# Altium footprint library USB to SATA.PcbLib: 19 footprints (part 1 of 2)
Each footprint in its own frame and in the unit in brackets; x right, y up, seen from the top. Pads: shape width x height; smd on the part's side, far side on the other; paste and mask are expansions set on the pad; w line width, h text height; cw(c..) or ccw(c..) is an arc to the next point about the centre after c.
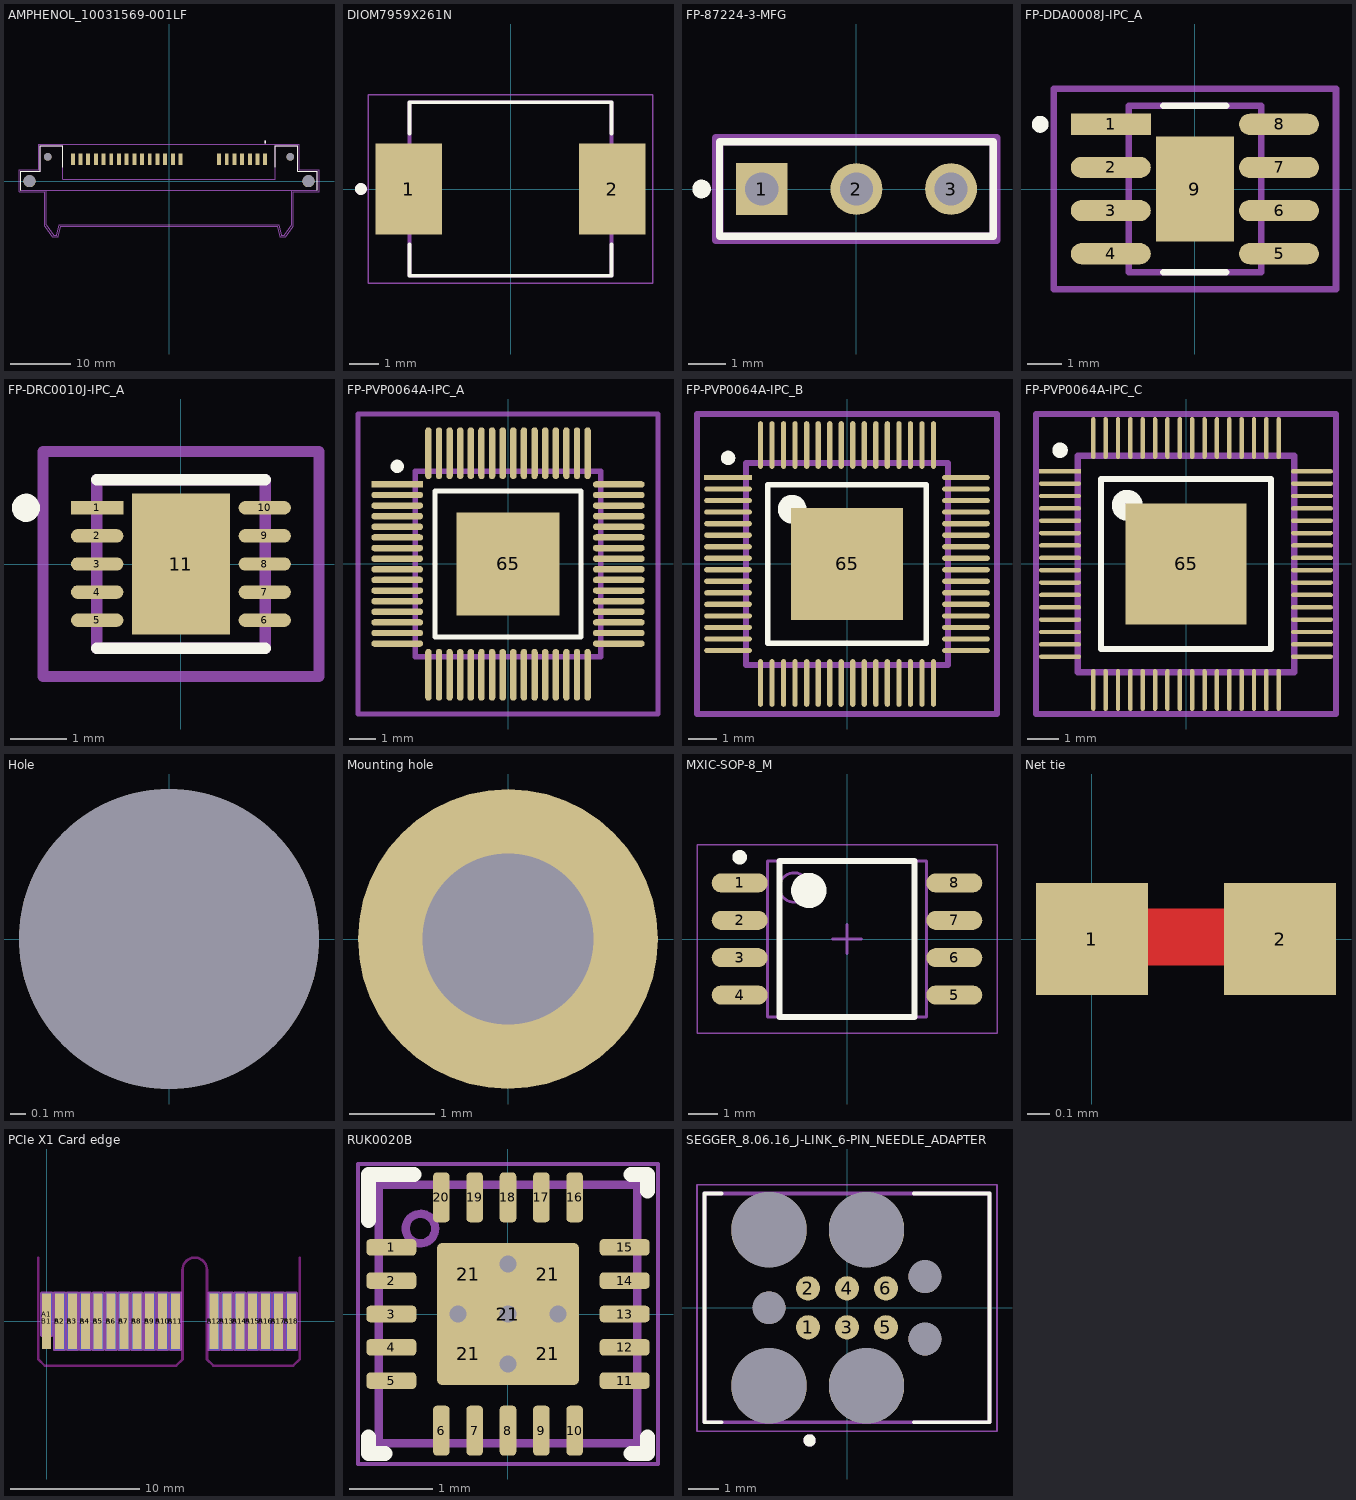
[diagram p0: the footprints below, top view; thin cyan lines are the x and y axes]

## AMPHENOL_10031569-001LF [mm]
pads (26):
  rect 0.65x1.9 smd: P1(1.905,3.6) P2(0.635,3.6) P3(-0.635,3.6) P4(-1.905,3.6) P5(-3.175,3.6) P6(-4.445,3.6) P7(-5.715,3.6) P8(-6.985,3.6) P9(-8.255,3.6) P10(-9.525,3.6) P11(-10.795,3.6) P12(-12.065,3.6) P13(-13.335,3.6) P14(-14.605,3.6) P15(-15.875,3.6) S1(15.875,3.6) S2(14.605,3.6) S3(13.335,3.6) S4(12.065,3.6) S5(10.795,3.6) S6(9.525,3.6) S7(8.255,3.6)
  round 2 hole 2 unplated: ""(-23,0) ""(23,0)
  round 1.25 hole 1.25 unplated: ""(-20,4) ""(20,4)
Top Overlay:
  circle w0.2: c15.875,6.458 r0.1
  lines w0.127: -24.5,-1.5 -24.5,1.65 -21.25,1.65 -21.25,5.8 -17.5,5.8 -17.5,2.33 ; 17.5,2.33 17.5,5.8 21.25,5.8 21.25,1.65 24.5,1.65 24.5,-1.5
Top 3D Body:
  circle w0.2: c15.875,6.458 r0.1
  lines w0.127: -20.215,-1.5 -20.215,-7.2 -19.025,-8.9 -18.525,-8.9 -18.095,-7.2 18.095,-7.2 18.525,-8.9 19.025,-8.9 20.215,-7.2 20.215,-1.5 ; -20.215,-1.5 -24.5,-1.5 -24.5,1.65 -21.25,1.65 -21.25,5.8 -17.5,5.8 -17.5,0.35 17.5,0.35 17.5,5.8 21.25,5.8 21.25,1.65 24.5,1.65 24.5,-1.5 20.215,-1.5 ; -20.215,-1.5 20.215,-1.5
Top Courtyard:
  lines w0.05: -24.75,-1.75 -20.465,-1.75 -20.465,-7.45 -19.275,-9.15 -18.275,-9.15 -17.845,-7.45 17.845,-7.45 18.275,-9.15 19.275,-9.15 20.465,-7.45 20.465,-1.75 24.75,-1.75 24.75,1.9 21.5,1.9 21.5,6.05 -21.5,6.05 -21.5,1.9 -24.75,1.9 -24.75,-1.75
3D body "10031569-001LF v0.step": height 2.75, standoff -2.25, extent -24.525,-8.914 24.475,5.786

## DC fan [mm] "17x17x8mm"
3D body "fan 17x17.x_t": height 10, standoff 2, extent -8.5,-8.5 8.5,8.5

## DIOM7959X261N [mm]
pads (2):
  rect 2.25x3.11 smd: 1(-3.46,0) 2(3.46,0)
Top Overlay:
  circle w0.2: c-5.085,0 r0.1
  lines w0.127: -3.437,-1.875 -3.437,-2.95 3.437,-2.95 3.437,-1.875 ; -3.437,1.875 -3.437,2.95 3.437,2.95 3.437,1.875
Top 3D Body:
  circle w0.2: c-5.085,0 r0.1
  lines w0.127: -3.437,-2.95 -3.437,2.95 3.437,2.95 3.437,-2.95 -3.437,-2.95
Top Courtyard:
  lines w0.05: -4.835,-3.2 -4.835,3.2 4.835,3.2 4.835,-3.2 -4.835,-3.2
3D body "step_temp.STEP": height 2.62, standoff 0, extent -3.975,-2.953 3.975,2.953

## FP-87224-3-MFG [mil]
pads (3):
  rect 54.69x54.69 hole 35 paste-99999 mask+0: 1(-100,0)
  round 54.69 hole 35 paste-99999 mask+0: 2(0,0) 3(100,0)
Top Overlay:
  circle w9.84: c-163.39,0 r4.92
  lines w7.87: -144.55,-50.05 144.55,-50.05 144.55,50.05 -144.55,50.05 -144.55,-50.05
Top Assembly:
  lines w7.87: -148.44,-53.94 148.44,-53.94 148.44,53.94 -148.44,53.94 -148.44,-53.94
  text ".Designator" at 0,-0.02 h39.37
Top 3D Body:
  lines w7.87: -144.5,-50 144.5,-50 144.5,50 -144.5,50 -144.5,-50
Top Courtyard:
  lines w7.87: -148.44,-53.94 148.44,-53.94 148.44,53.94 -148.44,53.94 -148.44,-53.94
Top Component Center:
  lines w3.94: -19.68,0 19.68,0 ; 0,-19.68 0,19.68
3D body "Conn_TE_Connectivity_87224-3_eec.STEP": height 10, standoff 0, extent -148.44,-53.94 148.44,53.94
3D body "Jumper Assembly.STEP": height 333.86, standoff 99.21, extent -149.41,-47.24 49.41,47.24

## FP-DDA0008J-IPC_A [mm]
pads (9):
  rect 2.353x0.622 smd paste+0 mask+0: 1(-2.477,1.905)
  rrect100% 2.353x0.622 smd paste+0 mask+0: 2(-2.477,0.635) 3(-2.477,-0.635) 4(-2.477,-1.905) 5(2.477,-1.905) 6(2.477,-0.635) 7(2.477,0.635) 8(2.477,1.905)
  rect 2.3x3.1 smd paste-1000 mask+0: 9(0,0)
Top Overlay:
  circle w0.25: c-4.553,1.905 r0.125
  lines w0.2: -0.925,-2.45 0.925,-2.45 ; -0.925,2.45 0.925,2.45
Top Paste:
  rectangle: -0.668,-1.068 0.668,1.068
Top Assembly:
  lines w0.2: -4.153,-2.95 -4.153,2.95 4.153,2.95 4.153,-2.95 -4.153,-2.95
  text ".Designator" at 0,-0.001 h1
Top 3D Body:
  lines w0.2: -1.95,-2.45 -1.95,2.45 1.95,2.45 1.95,-2.45 -1.95,-2.45
Top Courtyard:
  lines w0.2: -4.153,-2.95 -4.153,2.95 4.153,2.95 4.153,-2.95 -4.153,-2.95
Top Component Center:
  lines w0.1: -0.5,0 0.5,0 ; 0,-0.5 0,0.5
3D body "IC_Texas_Instruments_TPS5450DDAR_eec.STEP": height 0.25, standoff 0, extent -4.153,-2.95 4.153,2.95

## FP-DRC0010J-IPC_A [mm]
pads (11):
  rect 0.931x0.239 smd paste+0 mask+0: 1(-1.491,1)
  rrect100% 0.931x0.239 smd paste+0 mask+0: 2(-1.491,0.5) 3(-1.491,0) 4(-1.491,-0.5) 5(-1.491,-1) 6(1.491,-1) 7(1.491,-0.5) 8(1.491,0) 9(1.491,0.5) 10(1.491,1)
  rect 1.75x2.5 smd paste-1000 mask+0: 11(0,0)
Top Overlay:
  circle w0.25: c-2.756,1 r0.125
  lines w0.2: -1.5,-1.5 1.5,-1.5 ; -1.5,1.5 1.5,1.5
Top Paste:
  rectangle: -0.5,-0.875 0.5,0.875
Top Assembly:
  lines w0.2: -2.456,-2 -2.456,2 2.456,2 2.456,-2 -2.456,-2
  text ".Designator" at 0,-0.001 h1
Top 3D Body:
  lines w0.2: -1.5,-1.5 -1.5,1.5 1.5,1.5 1.5,-1.5 -1.5,-1.5
Top Courtyard:
  lines w0.2: -2.456,-2 -2.456,2 2.456,2 2.456,-2 -2.456,-2
Top Component Center:
  lines w0.1: -0.5,0 0.5,0 ; 0,-0.5 0,0.5
3D body "IC_Texas_Instruments_LM5165XDRCT_eec.STEP": height 0.25, standoff 0, extent -2.456,-2 2.456,2

## FP-PVP0064A-IPC_A [mm]
pads (65):
  rect 1.955x0.243 smd paste+0 mask+0: 1(-4.175,3)
  rrect100% 1.955x0.243 smd paste+0 mask+0: 2(-4.175,2.6) 3(-4.175,2.2) 4(-4.175,1.8) 5(-4.175,1.4) 6(-4.175,1) 7(-4.175,0.6) 8(-4.175,0.2) 9(-4.175,-0.2) 10(-4.175,-0.6) 11(-4.175,-1) 12(-4.175,-1.4) 13(-4.175,-1.8) 14(-4.175,-2.2) 15(-4.175,-2.6) 16(-4.175,-3) 33(4.175,-3) 34(4.175,-2.6) 35(4.175,-2.2) 36(4.175,-1.8) 37(4.175,-1.4) 38(4.175,-1) 39(4.175,-0.6) 40(4.175,-0.2) 41(4.175,0.2) 42(4.175,0.6) 43(4.175,1) 44(4.175,1.4) 45(4.175,1.8) 46(4.175,2.2) 47(4.175,2.6) 48(4.175,3)
  rrect100% 0.243x1.955 smd paste+0 mask+0: 17(-3,-4.175) 18(-2.6,-4.175) 19(-2.2,-4.175) 20(-1.8,-4.175) 21(-1.4,-4.175) 22(-1,-4.175) 23(-0.6,-4.175) 24(-0.2,-4.175) 25(0.2,-4.175) 26(0.6,-4.175) 27(1,-4.175) 28(1.4,-4.175) 29(1.8,-4.175) 30(2.2,-4.175) 31(2.6,-4.175) 32(3,-4.175) 49(3,4.175) 50(2.6,4.175) 51(2.2,4.175) 52(1.8,4.175) 53(1.4,4.175) 54(1,4.175) 55(0.6,4.175) 56(0.2,4.175) 57(-0.2,4.175) 58(-0.6,4.175) 59(-1,4.175) 60(-1.4,4.175) 61(-1.8,4.175) 62(-2.2,4.175) 63(-2.6,4.175) 64(-3,4.175)
  rect 3.9x3.9 smd paste-1000 mask+0: 65(0,0)
Top Overlay:
  circle w0.25: c-4.175,3.68 r0.125
  lines w0.2: -2.75,-2.75 -2.75,2.75 2.75,2.75 2.75,-2.75 -2.75,-2.75
Top Paste:
  rectangle: -1.233,-1.233 1.233,1.233
Top Assembly:
  lines w0.2: -5.653,-5.653 -5.653,5.653 5.653,5.653 5.653,-5.653 -5.653,-5.653
  text ".Designator" at 0,0.188 h1
Top 3D Body:
  lines w0.2: -3.5,-3.5 -3.5,3.5 3.5,3.5 3.5,-3.5 -3.5,-3.5
Top Courtyard:
  lines w0.2: -5.653,-5.653 -5.653,5.653 5.653,5.653 5.653,-5.653 -5.653,-5.653
Top Component Center:
  lines w0.1: -0.5,0 0.5,0 ; 0,-0.5 0,0.5
3D body "IC_Texas_Instruments_TUSB9261IPVP_eec.STEP": height 0.25, standoff 0, extent -5.653,-5.653 5.653,5.653

## FP-PVP0064A-IPC_B [mm]
pads (65):
  rect 1.655x0.183 smd paste+0 mask+0: 1(-4.125,3)
  rrect100% 1.655x0.183 smd paste+0 mask+0: 2(-4.125,2.6) 3(-4.125,2.2) 4(-4.125,1.8) 5(-4.125,1.4) 6(-4.125,1) 7(-4.125,0.6) 8(-4.125,0.2) 9(-4.125,-0.2) 10(-4.125,-0.6) 11(-4.125,-1) 12(-4.125,-1.4) 13(-4.125,-1.8) 14(-4.125,-2.2) 15(-4.125,-2.6) 16(-4.125,-3) 33(4.125,-3) 34(4.125,-2.6) 35(4.125,-2.2) 36(4.125,-1.8) 37(4.125,-1.4) 38(4.125,-1) 39(4.125,-0.6) 40(4.125,-0.2) 41(4.125,0.2) 42(4.125,0.6) 43(4.125,1) 44(4.125,1.4) 45(4.125,1.8) 46(4.125,2.2) 47(4.125,2.6) 48(4.125,3)
  rrect100% 0.183x1.655 smd paste+0 mask+0: 17(-3,-4.125) 18(-2.6,-4.125) 19(-2.2,-4.125) 20(-1.8,-4.125) 21(-1.4,-4.125) 22(-1,-4.125) 23(-0.6,-4.125) 24(-0.2,-4.125) 25(0.2,-4.125) 26(0.6,-4.125) 27(1,-4.125) 28(1.4,-4.125) 29(1.8,-4.125) 30(2.2,-4.125) 31(2.6,-4.125) 32(3,-4.125) 49(3,4.125) 50(2.6,4.125) 51(2.2,4.125) 52(1.8,4.125) 53(1.4,4.125) 54(1,4.125) 55(0.6,4.125) 56(0.2,4.125) 57(-0.2,4.125) 58(-0.6,4.125) 59(-1,4.125) 60(-1.4,4.125) 61(-1.8,4.125) 62(-2.2,4.125) 63(-2.6,4.125) 64(-3,4.125)
  rect 3.9x3.9 smd paste-1000 mask+0: 65(0,0)
Top Overlay:
  circle w0.25: c-4.125,3.68 r0.125
  circle w0.5: c-1.9,1.9 r0.25
  lines w0.2: -2.75,-2.75 2.75,-2.75 2.75,2.75 -2.75,2.75 -2.75,-2.75
Top Paste:
  rectangle: -1.233,-1.233 1.233,1.233
Top Assembly:
  lines w0.2: -5.203,-5.203 5.203,-5.203 5.203,5.203 -5.203,5.203 -5.203,-5.203
  text ".Designator" at 0,0.188 h1
Top 3D Body:
  lines w0.2: -3.5,-3.5 3.5,-3.5 3.5,3.5 -3.5,3.5 -3.5,-3.5
Top Courtyard:
  lines w0.2: -5.203,-5.203 5.203,-5.203 5.203,5.203 -5.203,5.203 -5.203,-5.203
Top Component Center:
  lines w0.1: -0.5,0 0.5,0 ; 0,-0.5 0,0.5
3D body "IC_Texas_Instruments_TUSB9261IPVP_eec.STEP": height 0.25, standoff 0, extent -5.203,-5.203 5.203,5.203

## FP-PVP0064A-IPC_C [mm]
pads (65):
  rect 1.355x0.143 smd paste+0 mask+0: 1(-4.075,3)
  rrect100% 1.355x0.143 smd paste+0 mask+0: 2(-4.075,2.6) 3(-4.075,2.2) 4(-4.075,1.8) 5(-4.075,1.4) 6(-4.075,1) 7(-4.075,0.6) 8(-4.075,0.2) 9(-4.075,-0.2) 10(-4.075,-0.6) 11(-4.075,-1) 12(-4.075,-1.4) 13(-4.075,-1.8) 14(-4.075,-2.2) 15(-4.075,-2.6) 16(-4.075,-3) 33(4.075,-3) 34(4.075,-2.6) 35(4.075,-2.2) 36(4.075,-1.8) 37(4.075,-1.4) 38(4.075,-1) 39(4.075,-0.6) 40(4.075,-0.2) 41(4.075,0.2) 42(4.075,0.6) 43(4.075,1) 44(4.075,1.4) 45(4.075,1.8) 46(4.075,2.2) 47(4.075,2.6) 48(4.075,3)
  rrect100% 0.143x1.355 smd paste+0 mask+0: 17(-3,-4.075) 18(-2.6,-4.075) 19(-2.2,-4.075) 20(-1.8,-4.075) 21(-1.4,-4.075) 22(-1,-4.075) 23(-0.6,-4.075) 24(-0.2,-4.075) 25(0.2,-4.075) 26(0.6,-4.075) 27(1,-4.075) 28(1.4,-4.075) 29(1.8,-4.075) 30(2.2,-4.075) 31(2.6,-4.075) 32(3,-4.075) 49(3,4.075) 50(2.6,4.075) 51(2.2,4.075) 52(1.8,4.075) 53(1.4,4.075) 54(1,4.075) 55(0.6,4.075) 56(0.2,4.075) 57(-0.2,4.075) 58(-0.6,4.075) 59(-1,4.075) 60(-1.4,4.075) 61(-1.8,4.075) 62(-2.2,4.075) 63(-2.6,4.075) 64(-3,4.075)
  rect 3.9x3.9 smd paste-1000 mask+0: 65(0,0)
Top Overlay:
  circle w0.5: c-1.9,1.9 r0.25
  circle w0.25: c-4.075,3.68 r0.125
  lines w0.2: -2.75,-2.75 -2.75,2.75 2.75,2.75 2.75,-2.75 -2.75,-2.75
Top Paste:
  rectangle: -1.233,-1.233 1.233,1.233
Top Assembly:
  lines w0.2: -4.853,-4.853 -4.853,4.853 4.853,4.853 4.853,-4.853 -4.853,-4.853
  text ".Designator" at 0,0.188 h1
Top 3D Body:
  lines w0.2: -3.5,-3.5 -3.5,3.5 3.5,3.5 3.5,-3.5 -3.5,-3.5
Top Courtyard:
  lines w0.2: -4.853,-4.853 -4.853,4.853 4.853,4.853 4.853,-4.853 -4.853,-4.853
Top Component Center:
  lines w0.1: -0.5,0 0.5,0 ; 0,-0.5 0,0.5
3D body "IC_Texas_Instruments_TUSB9261IPVP_eec.STEP": height 0.25, standoff 0, extent -4.853,-4.853 4.853,4.853

## Hole [mm]
pads (1):
  round 2 hole 2 unplated: ""(0,0)

## Mounting hole [mm]
pads (1):
  round 3.5 hole 2 unplated: ""(0,0)

## MXIC-SOP-8_M [mm] "SOP, 8-Leads, Body 5.4x5.3mm, Pitch 1.27mm, IPC Low Density"
height 2.16
pads (8):
  oval 1.9x0.65 smd: 1(-3.65,1.905) 2(-3.65,0.635) 3(-3.65,-0.635) 4(-3.65,-1.905) 5(3.65,-1.905) 6(3.65,-0.635) 7(3.65,0.635) 8(3.65,1.905)
Top Overlay:
  circle w0.25: c-3.65,2.78 r0.125
  circle w0.6: c-1.3,1.65 r0.3
  lines w0.2: -2.3,-2.65 -2.3,2.65 2.3,2.65 2.3,-2.65 -2.3,-2.65
Top 3D Body:
  circle w0.1: c-1.8,1.75 r0.5
  lines w0.1: -2.7,-2.65 -2.7,2.65 2.7,2.65 2.7,-2.65 -2.7,-2.65
Top Courtyard:
  lines w0.05: -5.1,-3.2 -5.1,3.2 5.1,3.2 5.1,-3.2 -5.1,-3.2
Top Component Center:
  lines w0.1: -0.5,0 0.5,0 ; 0,-0.5 0,0.5
3D body "SOP127P790X216-8M.step": height 2.16, standoff 0, extent -3.95,-2.65 3.95,2.65

## Net tie [mm]
pads (2):
  rect 0.5x0.5 smd mask-10: 1(0,0) 2(0.842,0)
Top Layer:
  rectangle: 0.129,-0.118 0.715,0.136

## PCIe X1 Card edge [mm]
pads (36):
  rect 0.7x3.2 smd far side paste-5.08: A1(0,0.55)
  rect 0.7x4.3 smd far side paste-5.08: A2(1,0) A3(2,0) A4(3,0) A5(4,0) A6(5,0) A7(6,0) A8(7,0) A9(8,0) A10(9,0) A11(10,0) A12(13,0) A13(14,0) A14(15,0) A15(16,0) A16(17,0) A17(18,0) A18(19,0)
  rect 0.7x4.3 smd paste-5.08: B1(0,0) B2(1,0) B3(2,0) B4(3,0) B5(4,0) B6(5,0) B7(6,0) B8(7,0) B9(8,0) B10(9,0) B11(10,-0.003) B12(13,0) B13(14,0) B14(15,0) B15(16,0) B16(17,0) B17(18,0) B18(19,0)
Top Solder:
  rectangle: -1.031,-3.813 19.721,2.054
Bottom Solder:
  rectangle: -1.031,-3.813 19.721,2.054
Keep-Out Layer:
  lines w0.2: -0.65,4.95 -0.65,-2.95 -0.15,-3.45 10.05,-3.45 10.55,-2.95 10.55,4 cw(c11.5,4) 12.45,4 12.45,-2.95 12.95,-3.45 19.144,-3.45 19.645,-2.949 ; 19.65,-2.95 19.65,4.95
Board Outline:
  lines w0.2: -0.4,-1.1 0.4,-1.1 0.4,2.2 -0.4,2.2 -0.4,-1.1 ; 0.6,-2.2 1.4,-2.2 1.4,2.2 0.6,2.2 0.6,-2.2 ; 1.6,-2.2 2.4,-2.2 2.4,2.2 1.6,2.2 1.6,-2.2 ; 2.6,-2.2 3.4,-2.2 3.4,2.2 2.6,2.2 2.6,-2.2 ; 3.6,-2.2 4.4,-2.2 4.4,2.2 3.6,2.2 3.6,-2.2 ; 4.6,-2.2 5.4,-2.2 5.4,2.2 4.6,2.2 4.6,-2.2 ; 5.6,-2.2 6.4,-2.2 6.4,2.2 5.6,2.2 5.6,-2.2 ; 6.6,-2.2 7.4,-2.2 7.4,2.2 6.6,2.2 6.6,-2.2 ; 7.6,-2.2 8.4,-2.2 8.4,2.2 7.6,2.2 7.6,-2.2 ; 8.6,-2.2 9.4,-2.2 9.4,2.2 8.6,2.2 8.6,-2.2 ; 9.6,-2.2 10.4,-2.2 10.4,2.2 9.6,2.2 9.6,-2.2 ; 12.6,-2.2 13.4,-2.2 13.4,2.2 12.6,2.2 12.6,-2.2 ; 13.6,-2.2 14.4,-2.2 14.4,2.2 13.6,2.2 13.6,-2.2 ; 14.6,-2.2 15.4,-2.2 15.4,2.2 14.6,2.2 14.6,-2.2 ; 15.6,-2.2 16.4,-2.2 16.4,2.2 15.6,2.2 15.6,-2.2 ; 16.6,-2.2 17.4,-2.2 17.4,2.2 16.6,2.2 16.6,-2.2 ; 17.6,-2.2 18.4,-2.2 18.4,2.2 17.6,2.2 17.6,-2.2 ; 18.6,-2.2 19.4,-2.2 19.4,2.2 18.6,2.2 18.6,-2.2

## RUK0020B [mm] "QFN, 20-Leads, Body 3.1x3.1mm, Pitch 0.4mm, Thermal Pad 1.7x1.7mm"
height 0.8
pads (25):
  rrect50% 0.6x0.2 smd: 1(-1.4,0.8) 2(-1.4,0.4) 3(-1.4,0) 4(-1.4,-0.4) 5(-1.4,-0.8) 11(1.4,-0.8) 12(1.4,-0.4) 13(1.4,0) 14(1.4,0.4) 15(1.4,0.8)
  rrect50% 0.2x0.6 smd: 6(-0.8,-1.4) 7(-0.4,-1.4) 8(0,-1.4) 9(0.4,-1.4) 10(0.8,-1.4) 16(0.8,1.4) 17(0.4,1.4) 18(0,1.4) 19(-0.4,1.4) 20(-0.8,1.4)
  rrect13% 0.75x0.75 on Top Paste: 21(-0.475,-0.475) 21(-0.475,0.475) 21(0.475,-0.475) 21(0.475,0.475)
  rrect6% 1.7x1.7 smd paste-0.85: 21(0,0)
via 0,-0.6 diameter 0.5 hole 0.2
via 0,0.6 diameter 0.5 hole 0.2
via 0,0 diameter 0.5 hole 0.2
via 0.6,0 diameter 0.5 hole 0.2
via 0.6,0 diameter 0.5 hole 0.2
via -0.6,0 diameter 0.5 hole 0.2
via -0.6,0 diameter 0.5 hole 0.2
Top Overlay:
  lines w0.18: -1.675,-1.475 -1.675,-1.675 -1.475,-1.675 ; -1.675,1.125 -1.675,1.675 -1.125,1.675 ; 1.475,-1.675 1.675,-1.675 1.675,-1.475 ; 1.475,1.675 1.675,1.675 1.675,1.475
Design Notes:
  text ".Designator" at -1.15,-0.2 h0.64
Top 3D Body:
  circle w0.1: c-1.05,1.025 r0.177
  lines w0.1: -1.55,-1.55 1.55,-1.55 1.55,1.55 -1.55,1.55 -1.55,-1.55
Top Courtyard:
  lines w0.05: -1.8,-1.8 -1.8,1.8 1.8,1.8 1.8,-1.8 -1.8,-1.8
Top Component Center:
  lines w0.1: -0.5,0 0.5,0 ; 0,-0.5 0,0.5
3D body "RUK0020B.stp": height 0.8, standoff 0, extent -1.5,-1.5 1.5,1.5

## SEGGER_8.06.16_J-LINK_6-PIN_NEEDLE_ADAPTER [mil]
pads (13):
  round 30.98 smd paste-39.37: 1(-50,-25) 2(-50,25) 3(0,-25) 4(0,25) 5(50,-25) 6(50,25)
  round 96.5 hole 96.5 unplated: ""(-100,-100) ""(-100,100) ""(25,-100) ""(25,100)
  round 42.01 hole 42.01 unplated: ""(-100,0) ""(100,-40) ""(100,40)
Top Overlay:
  circle w7.87: c-47.97,-170 r3.94
  lines w5: -160.85,-146.75 -182.5,-146.75 -182.5,146.75 -160.85,146.75 ; 85.85,-146.75 182.5,-146.75 182.5,146.75 85.85,146.75
Top 3D Body:
  circle w7.87: c-47.97,-170 r3.94
  lines w5: -182.5,-146.75 -182.5,146.75 182.5,146.75 182.5,-146.75 -182.5,-146.75
Top Courtyard:
  lines w1.97: -192.34,-158.09 -192.34,158.09 192.34,158.09 192.34,-158.09 -192.34,-158.09